# EAGLE library part SST39LF200A (library memory)
2 Mbit (x16) Multi-Purpose Flash Source: http://www.sst.com/dotAsset/40687.pdf
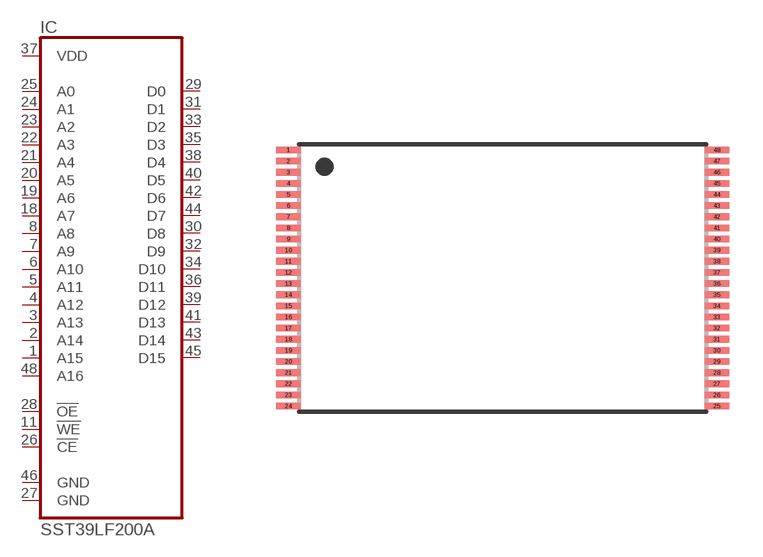
[diagram p67: symbol with the pads of TSOP48; footprint TSOP48]

Designator prefix IC

## SST39LF200A  [TSOP48]
1  A15  in
2  A14  in
3  A13  in
4  A12  in
5  A11  in
6  A10  in
7  A9  in
8  A8  in
11  !WE  in
18  A7  in
19  A6  in
20  A5  in
21  A4  in
22  A3  in
23  A2  in
24  A1  in
25  A0  in
26  !CE  in
27  GND  pwr
28  !OE  in
29  D0
30  D8
31  D1
32  D9
33  D2
34  D10
35  D3
36  D11
37  VDD  pwr
38  D4
39  D12
40  D5
41  D13
42  D6
43  D14
44  D7
45  D15
46  GND  pwr
48  A16  in

## Footprint TSOP48 (pad centres in mm)
48-Lead Thin Small Outline Package (TSOP) 12mm x 20mm SST Package Code: EK Source: http://www.sst.com/dotAsset/40687.pdf
smd 1.1 x 0.3: 1 -9.625,5.75; 2 -9.625,5.25; 3 -9.625,4.75; 4 -9.625,4.25; 5 -9.625,3.75; 6 -9.625,3.25; 7 -9.625,2.75; 8 -9.625,2.25; 9 -9.625,1.75; 10 -9.625,1.25; 11 -9.625,0.75; 12 -9.625,0.25; 13 -9.625,-0.25; 14 -9.625,-0.75; 15 -9.625,-1.25; 16 -9.625,-1.75; 17 -9.625,-2.25; 18 -9.625,-2.75; 19 -9.625,-3.25; 20 -9.625,-3.75; 21 -9.625,-4.25; 22 -9.625,-4.75; 23 -9.625,-5.25; 24 -9.625,-5.75; 25 9.625,-5.75; 26 9.625,-5.25; 27 9.625,-4.75; 28 9.625,-4.25; 29 9.625,-3.75; 30 9.625,-3.25; 31 9.625,-2.75; 32 9.625,-2.25; 33 9.625,-1.75; 34 9.625,-1.25; 35 9.625,-0.75; 36 9.625,-0.25; 37 9.625,0.25; 38 9.625,0.75; 39 9.625,1.25; 40 9.625,1.75; 41 9.625,2.25; 42 9.625,2.75; 43 9.625,3.25; 44 9.625,3.75; 45 9.625,4.25; 46 9.625,4.75; 47 9.625,5.25; 48 9.625,5.75